# EAGLE library part TP4056 (library ds_ic_vreg)
1A Standalone Linear Li-lon Battery Charger with Thermal Regulation
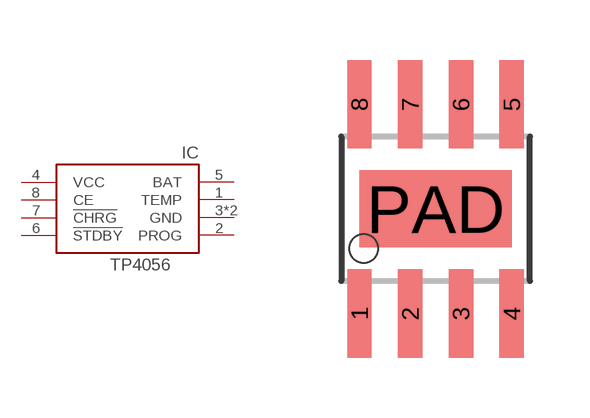
[diagram p7: symbol with the pads of SO8P; footprint SO8P]

Designator prefix IC

## TP4056PAD  [SO8P]
1  TEMP
2  PROG
3  GND
4  VCC
5  BAT
6  !STDBY
7  !CHRG
8  CE
PAD  GND

## Footprint SO8P (pad centres in mm)
smd 0.61 x 2.21: 1 -1.905,-2.616; 2 -0.635,-2.616; 3 0.635,-2.616; 4 1.905,-2.616; 5 1.905,2.616; 6 0.635,2.616; 7 -0.635,2.616; 8 -1.905,2.616
smd 3.81 x 1.93: PAD 0,0